# Altium footprint library PCB - THT - MKP1848S62070JY5B.PCBLIB: 1 footprints
Each footprint in its own frame and in the unit in brackets; x right, y up, seen from the top. Pads: shape width x height; smd on the part's side, far side on the other; paste and mask are expansions set on the pad; w line width, h text height; cw(c..) or ccw(c..) is an arc to the next point about the centre after c.
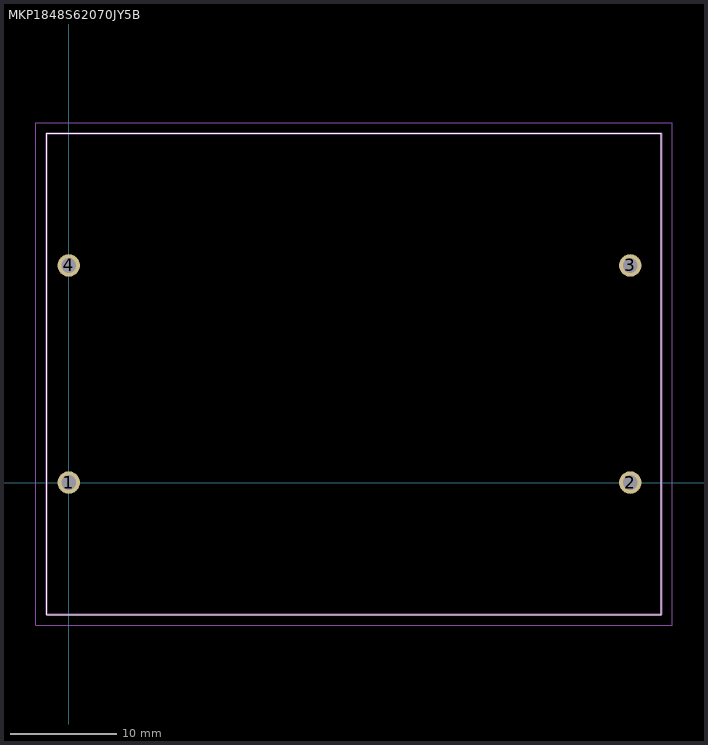
[diagram p0: the footprint, top view; thin cyan lines are the x and y axes]

## MKP1848S62070JY5B [mm]
pads (4):
  round 2.1 hole 1.4: 1(0,0) 2(52.5,0) 3(52.5,20.3) 4(0,20.3)
Top Overlay:
  lines w0.1: -2.08,-12.35 -2.08,32.65 55.42,32.65 55.42,-12.35 -2.08,-12.35
Mechanical 13:
  lines w0.2: -2.08,-12.35 -2.08,32.65 55.42,32.65 55.42,-12.35 -2.08,-12.35
Mechanical 15:
  lines w0.1: -3.08,-13.35 -3.08,33.65 56.42,33.65 56.42,-13.35 -3.08,-13.35
3D body "MKP1848S62070JY5B.stp": height 15.1, standoff -5, extent -2.08,-12.35 55.42,32.65